# Altium integrated library OPA2836IDR.IntLib: 1 symbol
Pins are listed as number, name and electrical type; pins without a type are passive.

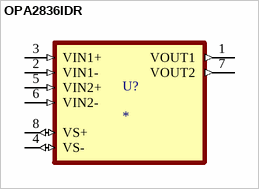
[diagram p0: symbol OPA2836IDR]

## OPA2836IDR
designator U?
Dual, Very Low Power, Rail to Rail out, Negative Rail in, VFB Op Amp 8-SOIC -40 to 125; MP: OPA2836IDR; MF: Texas Instruments; Package: SOIC-8 Texas Instruments; Purchase-URL: https://pricing.snapeda.com/search/part/OPA2836IDR/?ref=eda; Check_prices: https://www.snapeda.com/parts/OPA2836IDR/Texas%20Instruments/view-part/645201/?ref=eda; Price: None; Availability: Warning; SnapEDA_Link: https://www.snapeda.com/parts/OPA2836IDR/Texas%20Instruments/view-part/645201/?ref=snap; Value: *
footprint SOIC127P599X175-8N
pins: 1 VOUT1 (out), 2 VIN1- (in), 3 VIN1+ (in), 4 VS- (io), 5 VIN2+ (in), 6 VIN2- (in), 7 VOUT2 (out), 8 VS+ (io)